# Altium footprint library LAIRD_BMI-S-209-F.PcbLib: 1 footprints
Each footprint in its own frame and in the unit in brackets; x right, y up, seen from the top. Pads: shape width x height; smd on the part's side, far side on the other; paste and mask are expansions set on the pad; w line width, h text height; cw(c..) or ccw(c..) is an arc to the next point about the centre after c.
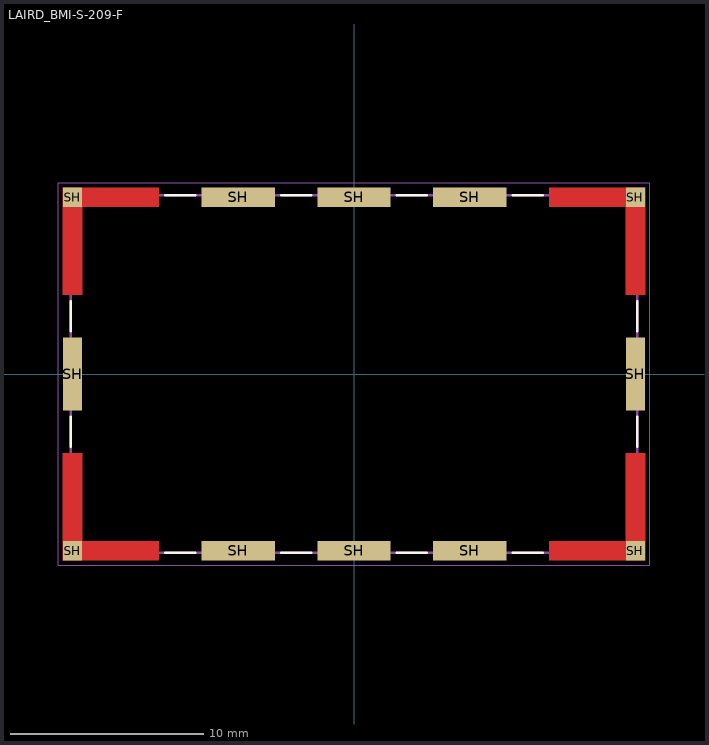
[diagram p0: the footprint, top view; thin cyan lines are the x and y axes]

## LAIRD_BMI-S-209-F [mm]
pads (12):
  rect 1x1 smd paste-1 mask+0: SH(-14.58,-9.15) SH(-14.58,9.15) SH(14.58,-9.15) SH(14.58,9.15)
  rect 1x3.8 smd: SH(-14.58,0) SH(14.58,0)
  rect 3.8x1 smd: SH(-6,-9.15) SH(-6,9.15) SH(0,-9.15) SH(0,9.15) SH(6,-9.15) SH(6,9.15)
Top Layer:
  region: -10.1,8.65 -14.08,8.65 -14.08,4.1 -15.08,4.1 -15.08,9.65 -10.1,9.65
  region: 15.08,-9.65 10.1,-9.65 10.1,-8.65 14.08,-8.65 14.08,-4.1 15.08,-4.1
  region: 15.08,4.1 14.08,4.1 14.08,8.65 10.1,8.65 10.1,9.65 15.08,9.65
  region: -14.08,-8.65 -10.1,-8.65 -10.1,-9.65 -15.08,-9.65 -15.08,-4.1 -14.08,-4.1
Top Overlay:
  lines w0.127: -14.68,-3.78 -14.68,-2.22 ; -14.68,2.22 -14.68,3.78 ; -9.78,-9.25 -8.22,-9.25 ; -9.78,9.25 -8.22,9.25 ; -3.78,-9.25 -2.22,-9.25 ; -3.78,9.25 -2.22,9.25 ; 2.22,-9.25 3.78,-9.25 ; 2.22,9.25 3.78,9.25 ; 8.22,-9.25 9.78,-9.25 ; 8.22,9.25 9.78,9.25 ; 14.68,-3.78 14.68,-2.22 ; 14.68,2.22 14.68,3.78
Top Paste:
  region: 15.08,-9.65 10.1,-9.65 10.1,-8.65 14.08,-8.65 14.08,-4.1 15.08,-4.1
  region: -10.1,8.65 -14.08,8.65 -14.08,4.1 -15.08,4.1 -15.08,9.65 -10.1,9.65
  region: 15.08,4.1 14.08,4.1 14.08,8.65 10.1,8.65 10.1,9.65 15.08,9.65
  region: -14.08,-8.65 -10.1,-8.65 -10.1,-9.65 -15.08,-9.65 -15.08,-4.1 -14.08,-4.1
Top Solder:
  region: -10,8.55 -13.98,8.55 -13.98,4 -15.18,4 -15.18,9.75 -10,9.75
  region: 15.18,-9.75 10,-9.75 10,-8.55 13.98,-8.55 13.98,-4 15.18,-4
  region: 15.18,4 13.98,4 13.98,8.55 10,8.55 10,9.75 15.18,9.75
  region: -13.98,-8.55 -10,-8.55 -10,-9.75 -15.18,-9.75 -15.18,-4 -13.98,-4
Mechanical 13:
  lines w0.127: -14.68,-9.25 -14.68,9.25 14.68,9.25 14.68,-9.25 -14.68,-9.25
Mechanical 15:
  lines w0.05: -15.33,-9.9 -15.33,9.9 15.33,9.9 15.33,-9.9 -15.33,-9.9
3D body "BMI-S-209-F--3DModel-STEP-56544.STEP": height 7.01, standoff 0.01, extent -14.68,-9.25 14.68,9.25